# Altium schematic symbol library Резисторные сборки.SchLib: 2 symbols
Pins are listed as number, name and electrical type; pins without a type are passive.

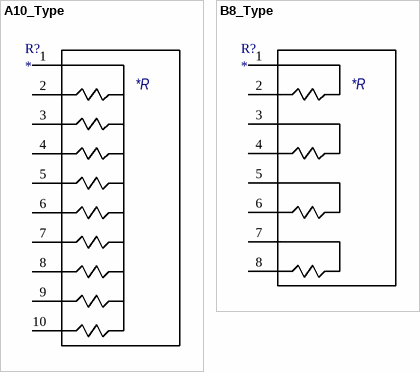
[diagram p0: symbols A10_Type to B8_Type]

## A10_Type
designator R?
Help: Преобразователь механической величины в электрическую.маркируется Bx
pins: 1, 2, 3, 4, 5, 6, 7, 8, 9, 10
text: *R

## B8_Type
designator R?
Help: Преобразователь механической величины в электрическую.маркируется Bx
pins: 1, 2, 3, 4, 5, 6, 7, 8
text: *R